# Altium schematic symbol library L1812.Schlib: 1 symbol
Pins are listed as number, name and electrical type; pins without a type are passive.

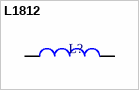
[diagram p0: symbol L1812]

## L1812
designator L?  (value not drawn)
1812 Chip Inductor - Standard
pins: 1, 2